# EAGLE library part MAX855* (library NewSDR)
Maxim 4A Ultra-Low_Input_Voltage LDO Regulators
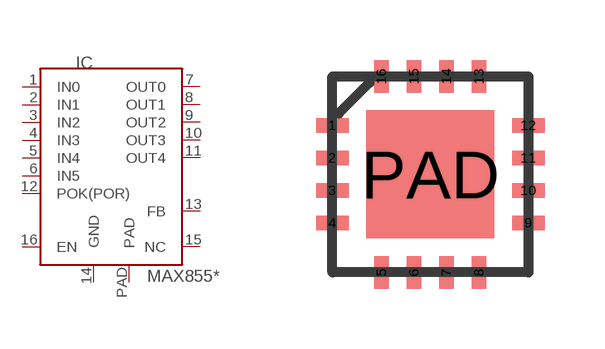
[diagram p120: symbol with the pads of TQFN16; footprint TQFN16]

Designator prefix IC

## MAX8556ETE+ (FEATURE: POK), MAX8557ETE+ (FEATURE: POR)  [TQFN16]
1  IN0  pas
2  IN1  pas
3  IN2  pas
4  IN3  pas
5  IN4  pas
6  IN5  pas
7  OUT0  pas
8  OUT1  pas
9  OUT2  pas
10  OUT3  pas
11  OUT4  pas
12  POK(POR)  in
13  FB  pas
14  GND  pwr
15  NC  nc
16  EN  in
PAD  PAD  pwr

## Footprint TQFN16 (pad centres in mm)
smd 0.813 x 0.356: 1 -2.451,1.219; 2 -2.451,0.406; 3 -2.451,-0.406; 4 -2.451,-1.219; 9 2.451,-1.219; 10 2.451,-0.406; 11 2.451,0.406; 12 2.451,1.219
smd 0.356 x 0.813: 5 -1.219,-2.451; 6 -0.406,-2.451; 7 0.406,-2.451; 8 1.219,-2.451; 13 1.219,2.451; 14 0.406,2.451; 15 -0.406,2.451; 16 -1.219,2.451
smd 3.2 x 3.2: PAD 0,0